# Altium footprint library PH1-07-UA.PcbLib: 1 footprints
Each footprint in its own frame and in the unit in brackets; x right, y up, seen from the top. Pads: shape width x height; smd on the part's side, far side on the other; paste and mask are expansions set on the pad; w line width, h text height; cw(c..) or ccw(c..) is an arc to the next point about the centre after c.
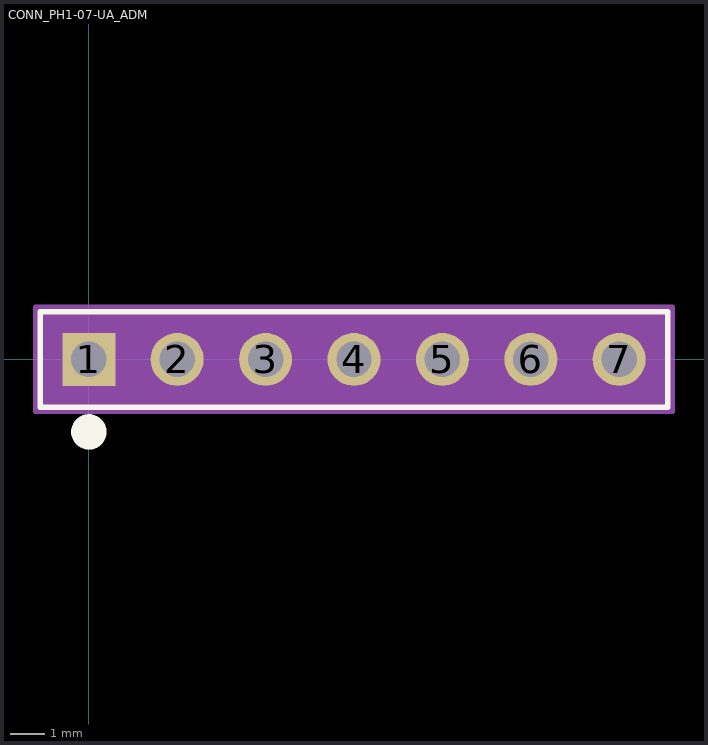
[diagram p0: the footprint, top view; thin cyan lines are the x and y axes]

## CONN_PH1-07-UA_ADM [mil]
pads (7):
  rect 60x60 hole 40 paste-30 mask+0: 1(0,0)
  round 60 hole 40 paste-30 mask+0: 2(100,0) 3(200,0) 4(300,0) 5(400,0) 6(500,0) 7(600,0)
Top Overlay:
  circle w20: c0,-82 r10
  lines w6: -55,-54 655,-54 655,54 -55,54 -55,-54
  text ".Designator" at 162.5,-25 h50
Mechanical 13:
  circle w1: c0,-34 r10
  lines w1: -50,-49 650,-49 650,49 -50,49 -50,-49
  text ".Designator" at 162.5,-25 h50
Mechanical 15:
  region: 660,59 -60,59 -60,-59 660,-59
  lines w6: -60,-59 -60,59 660,59 660,-59 -60,-59
3D body "CONN_PH1-07-UA_ADM.step": height 335, standoff -200, extent -50,-49.02 650,49.02